# EAGLE library part ADAFRUIT-MICRO-SD (library RocketControlBoard)
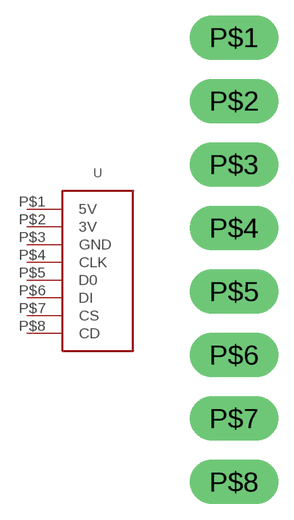
[diagram p13: symbol with the pads of ADAFRUIT-MICRO-SD; footprint ADAFRUIT-MICRO-SD]

Designator prefix -

## ADAFRUIT-MICRO-SD  [ADAFRUIT-MICRO-SD]
P$1  5V
P$2  3V
P$3  GND
P$4  CLK
P$5  D0
P$6  DI
P$7  CS
P$8  CD

## Footprint ADAFRUIT-MICRO-SD (pad centres in mm)
drill 1 pad 1.778 long: P$1 0,8.89; P$2 0,6.35; P$3 0,3.81; P$4 0,1.27; P$5 0,-1.27; P$6 0,-3.81; P$7 0,-6.35; P$8 0,-8.89